# Altium schematic symbol library L298P.SchLib: 1 symbol
Pins are listed as number, name and electrical type; pins without a type are passive.

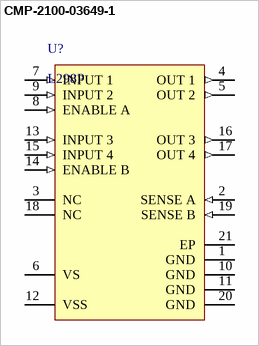
[diagram p0: symbol CMP-2100-03649-1]

## CMP-2100-03649-1
designator U?, comment L298P
Dual Full-Bridge Driver, 4.5 to 7 V, -25 to 130 degC, 20-Pin SOIC, RoHS, Tube; Manufacturer: STMicroelectronics; Output Current: 2A; Collector Emitter Voltage (VCEO): 46V; Min Supply Voltage: 4.8V; Max Collector Current: 3A; Supply Voltage: 42V; Number of Channels: 2; Operating Supply Current: 13mA; Packaging: Rail/Tube; Package Reference: PowerSO20; Width: 11.1mm; Radiation Hardening: No; Height: 3.3mm; Lead Free: LeadFree; Datasheet Version: 36526.0; Datasheet URL: http://www.st.com/content/ccc/resource/technical/document/datasheet/82/cc/3f/39/0a/29/4d/f0/CD00000240.pdf/files/CD00000240.pdf/jcr:content/translations/en.CD00000240.pdf; RoHSCompliant: true; Max Supply Voltage: 46V; Output Current per Channel: 2A; Package Description: 20-Pin Small Outline Integrated Circuits, Body 15.9 x 11 mm, Pitch 1.27 mm; Case/Package: SOIC; Min Operating Temperature: -25degC; Number of Pins: 20; Length: 16mm; Max Output Current: 3A; Package Quantity: 31; Max Operating Temperature: 130degC; Mount: SurfaceMount; Manufacturer URL: http://www.st.com/
footprint STM-PowerSO20_N (SOIC, 20-Leads, Body 16x11.1mm, Pitch 1.27mm, Thermal Pad 16x6.2mm, IPC Medium Density)
footprint STM-PowerSO20_M (SOIC, 20-Leads, Body 16x11.1mm, Pitch 1.27mm, Thermal Pad 16x6.2mm, IPC Low Density)
footprint STM-PowerSO20_L (SOIC, 20-Leads, Body 16x11.1mm, Pitch 1.27mm, Thermal Pad 16x6.2mm, IPC High Density)
pins: 1 GND (power) "Ground.", 2 SENSE A (in) "Between this pin and ground is connected the sense resistor to control the current of the load.", 3 NC "Not Connected", 4 OUT 1 (out) "Outputs of the Bridge A; the current that flows through the load connected between these two pins is monitored at pin 1.", 5 OUT 2 (out) "Outputs of the Bridge A; the current that flows through the load connected between these two pins is monitored at pin 1.", 6 VS (power) "Supply Voltage for the Power Output Stages. A non-inductive 100nF capacitor must be connected between this pin and ground.", 7 INPUT 1 (in) "TTL Compatible Inputs of the Bridge A.", 8 ENABLE A (in) "TTL Compatible Enable Input: the L state disables the bridge A (enable A) and/or the bridge B (enable B).", 9 INPUT 2 (in) "TTL Compatible Inputs of the Bridge A.", 10 GND (power) "Ground.", 11 GND (power) "Ground.", 12 VSS (power) "Supply Voltage for the Logic Blocks. A100nF capacitor must be connected between this pin and ground.", 13 INPUT 3 (in) "TTL Compatible Inputs of the Bridge B.", 14 ENABLE B (in) "TTL Compatible Enable Input: the L state disables the bridge A (enable A) and/or the bridge B (enable B).", 15 INPUT 4 (in) "TTL Compatible Inputs of the Bridge B.", 16 OUT 3 (out) "Outputs of the Bridge B. The current that flows through the load connected between these two pins is monitored at pin 15.", 17 OUT 4 (out) "Outputs of the Bridge B. The current that flows through the load connected between these two pins is monitored at pin 15.", 18 NC "Not Connected", 19 SENSE B (in) "Between this pin and ground is connected the sense resistor to control the current of the load.", 20 GND (power) "Ground.", 21 EP "PAD"